# EAGLE library part LDQ-N286RI (library 029000100  -  gKEagleLibrary)
0.28" 4 digit , SEVEN SEGMENT Display, RED, Gray Face with milkey white diffused segments
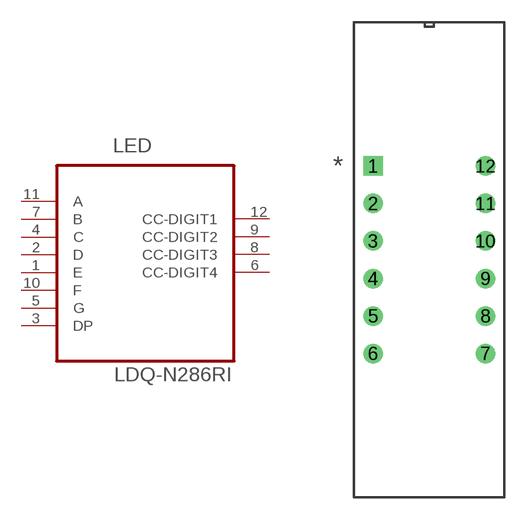
[diagram p44: symbol with the pads of LUMEX_LDQ-N286RI; footprint LUMEX_LDQ-N286RI]

Designator prefix LED

## LDQ-N286RI (MPN: LDQ-N286RI; OC_FARNELL: 1795532; OC_NEWARK: 19J8030; PACKAGE: DIP -TH; SUPPLIER: LUMEX)  [LUMEX_LDQ-N286RI]
1  E  pas
2  D  pas
3  DP  pas
4  C  pas
5  G  pas
6  CC-DIGIT4  pas
7  B  pas
8  CC-DIGIT3  pas
9  CC-DIGIT2  pas
10  F  pas
11  A  pas
12  CC-DIGIT1  pas

## Footprint LUMEX_LDQ-N286RI (pad centres in mm)
drill 0.813 square: 1 -7.62,12.7
drill 0.813: 2 -7.62,10.16; 3 -7.62,7.62; 4 -7.62,5.08; 5 -7.62,2.54; 6 -7.62,0; 7 0,0; 8 0,2.54; 9 0,5.08; 10 0,7.62; 11 0,10.16; 12 0,12.7